# EAGLE library part TF-LCM17723A-N (library 1in8_breakout)
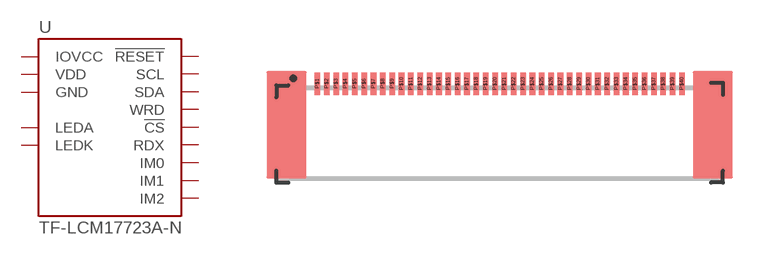
[diagram p0: symbol with the pads of FPC05040-17204; footprint FPC05040-17204]

Designator prefix U

## TF-LCM17723A-N-TOP_CONTACTS  [FPC05040-17204]
P$1  IM2
P$2  IM1
P$3  IM0
P$4  !RESET
P$6  !CS
P$7  SCL
P$8  WRD
P$9  RDX
P$10  SDA
P$12  SDA
P$28  GND
P$29  GND
P$30  GND
P$31  IOVCC
P$32  VDD
P$33  LEDA
P$34  LEDK
P$35  LEDK
P$37  GND
P$38  GND
P$39  GND
P$40  GND

## TF-LCM17723A-N-BOTTOM_CONTACTS  [FPC05040-17204]
P$1  GND
P$2  GND
P$3  GND
P$4  GND
P$6  LEDK
P$7  LEDK
P$8  LEDA
P$9  VDD
P$10  IOVCC
P$11  GND
P$12  GND
P$13  GND
P$29  SDA
P$31  SDA
P$32  RDX
P$33  WRD
P$34  SCL
P$35  !CS
P$37  !RESET
P$38  IM0
P$39  IM1
P$40  IM2

## Footprint FPC05040-17204 (pad centres in mm)
This is a 40-pin FPC connector supplied by Atom. SparkFun SKU is CONN-14082
smd 0.3 x 1.2: P$1 -9.75,0.6; P$2 -9.25,0.6; P$3 -8.75,0.6; P$4 -8.25,0.6; P$5 -7.75,0.6; P$6 -7.25,0.6; P$7 -6.75,0.6; P$8 -6.25,0.6; P$9 -5.75,0.6; P$10 -5.25,0.6; P$11 -4.75,0.6; P$12 -4.25,0.6; P$13 -3.75,0.6; P$14 -3.25,0.6; P$15 -2.75,0.6; P$16 -2.25,0.6; P$17 -1.75,0.6; P$18 -1.25,0.6; P$19 -0.75,0.6; P$20 -0.25,0.6; P$21 0.25,0.6; P$22 0.75,0.6; P$23 1.25,0.6; P$24 1.75,0.6; P$25 2.25,0.6; P$26 2.75,0.6; P$27 3.25,0.6; P$28 3.75,0.6; P$29 4.25,0.6; P$30 4.75,0.6; P$31 5.25,0.6; P$32 5.75,0.6; P$33 6.25,0.6; P$34 6.75,0.6; P$35 7.25,0.6; P$36 7.75,0.6; P$37 8.25,0.6; P$38 8.75,0.6; P$39 9.25,0.6; P$40 9.75,0.6